# Altium footprint library Connectors.PcbLib: 2 footprints
Each footprint in its own frame and in the unit in brackets; x right, y up, seen from the top. Pads: shape width x height; smd on the part's side, far side on the other; paste and mask are expansions set on the pad; w line width, h text height; cw(c..) or ccw(c..) is an arc to the next point about the centre after c.
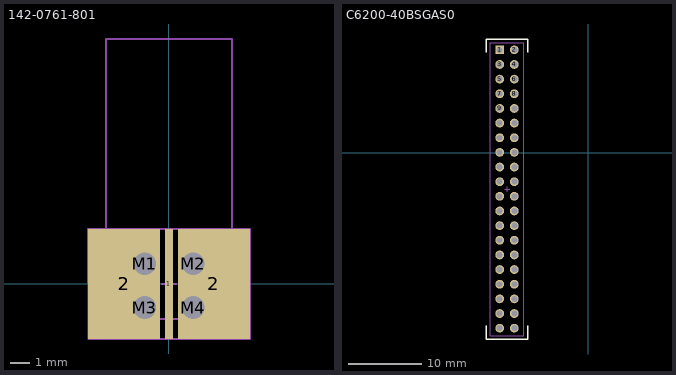
[diagram p0: the footprints below, top view; thin cyan lines are the x and y axes]

## 142-0761-801 [mm] "SMA-Jack(Female), 26.5 GHz, PCB Mount"
pads (7):
  rect 0.41x5.54 smd paste-2 mask-0.102: 1(0,0)
  rect 3.61x5.54 smd paste-5 mask-5.102: 2(-2.258,0) 2(2.258,0)
  round 1.36 hole 1.14 mask-0.1: M1(-1.22,1.02) M2(1.22,1.02) M3(-1.22,-1.19) M4(1.22,-1.19)
Top Overlay:
  region: -4.165,5.98
Top Paste:
  region: -2.035,2.41 -3.53,2.41 -3.53,-1.93 -2.035,-1.93
  region: 2.035,2.41 3.53,2.41 3.53,-1.93 2.035,-1.93
  region: -0.19,2.75 0.19,2.75 0.19,1.4 -0.19,1.4
Mechanical 7:
  lines w0.1: -3.169,-1.754 3.178,-1.754 3.178,12.317 -3.169,12.317 -3.169,-1.754
  text ".Designator" at -0.475,-0.25 h0.7
Mechanical 13:
  lines w0.1: -3.169,-1.754 3.178,-1.754 3.178,12.317 -3.169,12.317 -3.169,-1.754
Mechanical 15:
  lines w0.1: -0.35,0 0.35,0 ; 0,-0.35 0,0.35 ; -4.065,2.77 4.065,2.77 4.065,-2.77 -4.055,-2.763 -4.065,2.77
3D body "dr-3d-CSS-JOHN-142-0761-801.stp": height 3.27, standoff -3.08, extent -3.169,-1.754 3.178,12.317

## C6200-40BSGAS0 [mm] "step 2mm, h 2mm, 2x20 pins, TH"
height 5.9
pads (40):
  rect 1.2x1.2 hole 0.8 square: 1(-12.11,14.04)
  round 1.2 hole 0.8: 2(-10.11,14.04) 3(-12.11,12.04) 4(-10.11,12.04) 5(-12.11,10.04) 6(-10.11,10.04) 7(-12.11,8.04) 8(-10.11,8.04) 9(-12.11,6.04) 10(-10.11,6.04) 11(-12.11,4.04) 12(-10.11,4.04) 13(-12.11,2.04) 14(-10.11,2.04) 15(-12.11,0.04) 16(-10.11,0.04) 17(-12.11,-1.96) 18(-10.11,-1.96) 19(-12.11,-3.96) 20(-10.11,-3.96) 21(-12.11,-5.96) 22(-10.11,-5.96) 23(-12.11,-7.96) 24(-10.11,-7.96) 25(-12.11,-9.96) 26(-10.11,-9.96) 27(-12.11,-11.96) 28(-10.11,-11.96) 29(-12.11,-13.96) 30(-10.11,-13.96) 31(-12.11,-15.96) 32(-10.11,-15.96) 33(-12.11,-17.96) 34(-10.11,-17.96) 35(-12.11,-19.96) 36(-10.11,-19.96) 37(-12.11,-21.96) 38(-10.11,-21.96) 39(-12.11,-23.96) 40(-10.11,-23.96)
Top Overlay:
  lines w0.2: -13.96,-23.65 -13.96,-25.44 -8.26,-25.44 -8.26,-23.65 ; -13.96,13.73 -13.96,15.52 -8.26,15.52 -8.26,13.73
Mechanical 7:
  circle w0.3: c-12.11,14.04 r0.15
  lines w0.1: -13.4,-24.98 -8.8,-24.98 -8.8,15.02 -13.4,15.02 -13.4,-24.98
  text ".Designator" at -11.56,12.75 h0.7
Mechanical 13:
  lines w0.1: -13.4,-24.98 -13.4,15.02 -8.8,15.02 -8.8,-24.98 -13.4,-24.98
Mechanical 15:
  circle w0.3: c-12.11,14.04 r0.15
  lines w0.1: -11.45,-4.98 -10.75,-4.98 ; -11.1,-5.33 -11.1,-4.63 ; -13.4,-24.98 -13.4,15.02 -8.8,15.02 -8.8,-24.98 -13.4,-24.98
3D body "User Library-PLD2-40.STEP": height 5.5, standoff -2.5, extent -13.4,-24.98 -8.8,15.02